# EAGLE library part 2X11-LOCKING (library Shell2013 (1))
DIGIKEY PN: A33229-ND TE Connectivity 5-794630-2
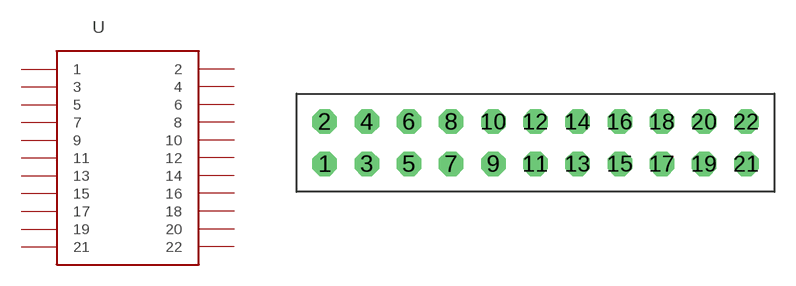
[diagram p7: symbol with the pads of 2X11-LOCKING; footprint 2X11-LOCKING]

Designator prefix -

## 2X11-LOCKING  [2X11-LOCKING]
1  1
2  2
3  3
4  4
5  5
6  6
7  7
8  8
9  9
10  10
11  11
12  12
13  13
14  14
15  15
16  16
17  17
18  18
19  19
20  20
21  21
22  22

## Footprint 2X11-LOCKING (pad centres in mm)
drill 1.02 pad 1.75 octagon: 1 2,2; 2 2,5; 3 5,2; 4 5,5; 5 8,2; 6 8,5; 7 11,2; 8 11,5; 9 14,2; 10 14,5; 11 17,2; 12 17,5; 13 20,2; 14 20,5; 15 23,2; 16 23,5; 17 26,2; 18 26,5; 19 29,2; 20 29,5; 21 32,2; 22 32,5